# Altium schematic symbol library 830108174209.SchLib: 1 symbol
Pins are listed as number, name and electrical type; pins without a type are passive.

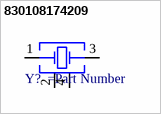
[diagram p0: symbol 830108174209]

## 830108174209
designator Y?
=Description
pins: 1 Crystal, 2 GND, 3 Crystal, 4 GND